# Altium schematic symbol library SCH - OPAMP - 3PEAK LMV321B.SCHLIB: 1 symbol
Pins are listed as number, name and electrical type; pins without a type are passive.

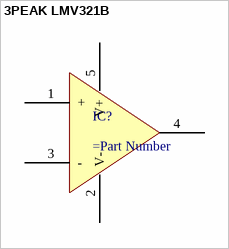
[diagram p0: symbol 3PEAK LMV321B]

## 3PEAK LMV321B
designator IC?
1MHz, 80μA, RRIO, Op Amps
pins: 1 +, 2 V-, 3 -, 4 OUT, 5 V+